# EAGLE library part RJ11 (library con-tycoelectronics)
CORCOM Modular RJ Jacks No Shield Source: www.tycoelectronics.com .. ENG_DS_1654001_1099_RJ_L_0507.pdf
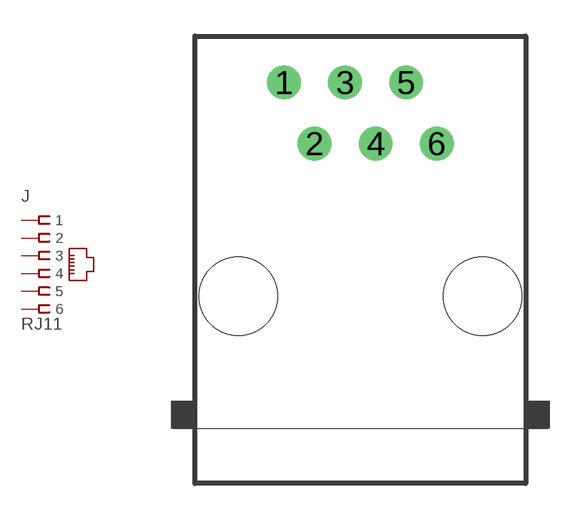
[diagram p1: symbol with the pads of RJ11-NO_SHIELD; footprint RJ11-NO_SHIELD]

Designator prefix J

## RJ11-2L-B (MF: TYCO ELECTRONICS; MPN: RJ11-2L-B; OC_FARNELL: unknown; OC_NEWARK: 83F4463), RJ11-2L-S (MPN: RJ11-2L-S; OC_FARNELL: unknown; OC_NEWARK: 73K3294), RJ11-2X (OC_FARNELL: unknown; OC_NEWARK: unknown), RJ11-4L-B (MF: TYCO ELECTRONICS; MPN: RJ11-4L-B; OC_FARNELL: unknown; OC_NEWARK: 52K3315), RJ11-4L-S (MPN: RJ11-4L-S; OC_FARNELL: unknown; OC_NEWARK: 69K7126), RJ11-4X (MPN: 6609214-3; OC_FARNELL: unknown; OC_NEWARK: 19R7022), RJ11-6L-B (MF: TYCO ELECTRONICS; MPN: RJ11-6L-B; OC_FARNELL: unknown; OC_NEWARK: 52K3613), RJ11-6L-S (MF: TYCO ELECTRONICS; MPN: RJ11-6L-S; OC_FARNELL: 1654827; OC_NEWARK: 50F1358), RJ11-6X (MPN: RJ11-6X; OC_FARNELL: unknown; OC_NEWARK: 16R6089)  [RJ11-NO_SHIELD]
1  1  pas
2  2  pas
3  3  pas
4  4  pas
5  5  pas
6  6  pas

## Footprint RJ11-NO_SHIELD (pad centres in mm)
RJ11 Low Profile No Shield For all RJ11 N and Z Series Models Source: www.tycoelectronics.com .. ENG_DS_1654001_1099_RJ_L_0507.pdf
drill 0.9 pad 1.4: 1 -3.175,8.89; 2 -1.905,6.35; 3 -0.635,8.89; 4 0.635,6.35; 5 1.905,8.89; 6 3.175,6.35
hole 3.251 at -5.08,0
hole 3.251 at 5.08,0